# EAGLE library part DRV8801 (library DRV8801)
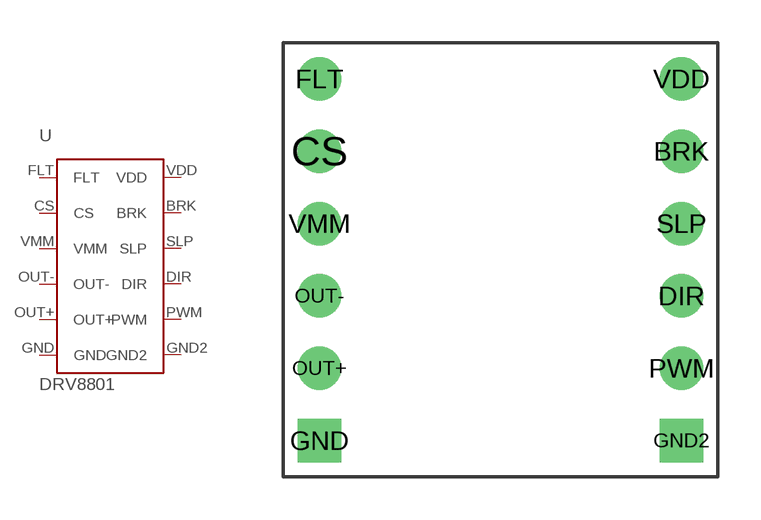
[diagram p0: symbol with the pads of DRV8801; footprint DRV8801]

Designator prefix -

## DRV8801  [DRV8801]
BRK  BRK
CS  CS
DIR  DIR
FLT  FLT
GND  GND
GND2  GND2
OUT+  OUT+
OUT-  OUT-
PWM  PWM
SLP  SLP
VDD  VDD
VMM  VMM

## Footprint DRV8801 (pad centres in mm)
drill 1.016: BRK 6.35,3.81; CS -6.35,3.81; DIR 6.35,-1.27; FLT -6.35,6.35; OUT+ -6.35,-3.81; OUT- -6.35,-1.27; PWM 6.35,-3.81; SLP 6.35,1.27; VDD 6.35,6.35; VMM -6.35,1.27
drill 1.016 square: GND -6.35,-6.35; GND2 6.35,-6.35